# EAGLE library part XBEE-S2C (library LARS_409_MODULES)
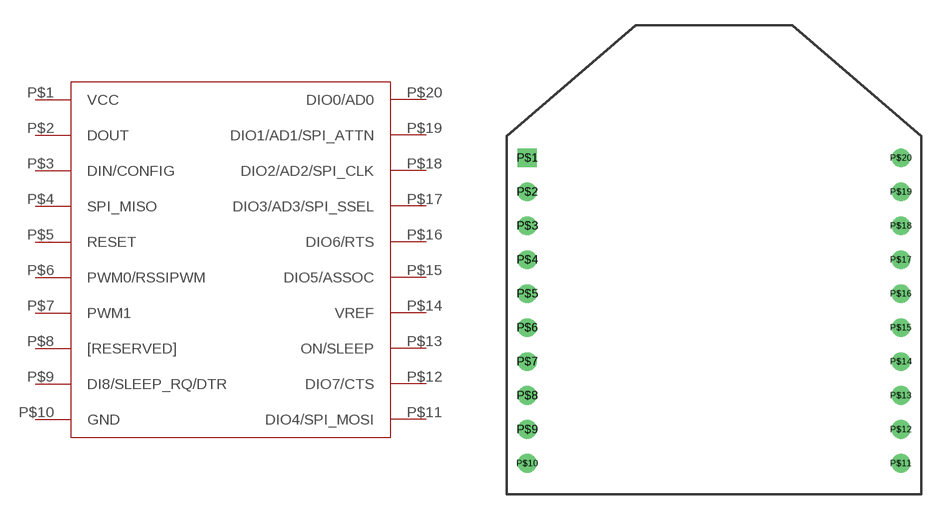
[diagram p7: symbol with the pads of XBEE-S2C; footprint XBEE-S2C]

Designator prefix -

## XBEE-S2C  [XBEE-S2C]
P$1  VCC
P$2  DOUT
P$3  DIN/CONFIG
P$4  SPI_MISO
P$5  RESET
P$6  PWM0/RSSIPWM
P$7  PWM1
P$8  [RESERVED]
P$9  DI8/SLEEP_RQ/DTR
P$10  GND
P$11  DIO4/SPI_MOSI
P$12  DIO7/CTS
P$13  ON/SLEEP
P$14  VREF
P$15  DIO5/ASSOC
P$16  DIO6/RTS
P$17  DIO3/AD3/SPI_SSEL
P$18  DIO2/AD2/SPI_CLK
P$19  DIO1/AD1/SPI_ATTN
P$20  DIO0/AD0

## Footprint XBEE-S2C (pad centres in mm)
drill 0.6 square: P$1 -11,6
drill 0.6: P$2 -11,4; P$3 -11,2; P$4 -11,0; P$5 -11,-2; P$6 -11,-4; P$7 -11,-6; P$8 -11,-8; P$9 -11,-10; P$10 -11,-12; P$11 11,-12; P$12 11,-10; P$13 11,-8; P$14 11,-6; P$15 11,-4; P$16 11,-2; P$17 11,0; P$18 11,2; P$19 11,4; P$20 11,6